# EAGLE library part SI-1010G (library LW_DUB)
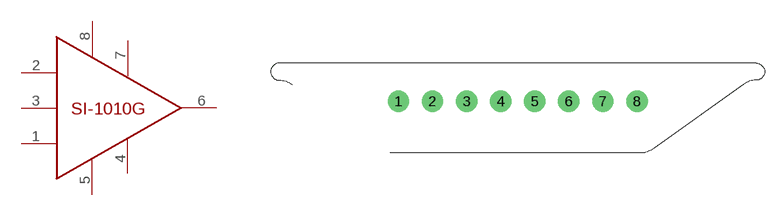
[diagram p1: symbol with the pads of SI-1010G; footprint SI-1010G]

Designator prefix -

## SI-1010G  [SI-1010G]
1  P1
2  P2
3  P3
4  P4
5  P5
6  P6
7  P7
8  P8

## Footprint SI-1010G (pad centres in mm)
drill 1.2 pad 2.5: 1 -14,2.5; 2 -10,2.5; 3 -6,2.5; 4 -2,2.5; 5 2,2.5; 6 6,2.5; 7 10,2.5; 8 14,2.5